# EAGLE library part UCC28780 (library my_ic)
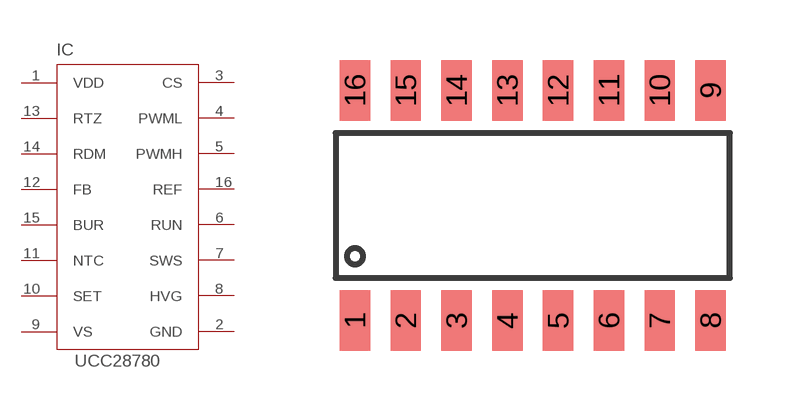
[diagram p29: symbol with the pads of SO16; footprint SO16]

Designator prefix IC

## UCC28780  [SO16]
1  VDD  pwr
2  GND  pwr
3  CS  in
4  PWML  out
5  PWMH  out
6  RUN  out
7  SWS  in
8  HVG  oc
9  VS  in
10  SET  in
11  NTC  pas
12  FB  in
13  RTZ  in
14  RDM  in
15  BUR  in
16  REF  out

## Footprint SO16 (pad centres in mm)
PLASTIC SMALL-OUTLINES PACKAGE D (R-PDSO-G16) Source: http://focus.ti.com/lit/ds/symlink/ina2126.pdf
smd 0.762 x 1.524: 1 -4.445,-2.875; 2 -3.175,-2.875; 3 -1.905,-2.875; 4 -0.635,-2.875; 5 0.635,-2.875; 6 1.905,-2.875; 7 3.175,-2.875; 8 4.445,-2.875; 9 4.445,2.875; 10 3.175,2.875; 11 1.905,2.875; 12 0.635,2.875; 13 -0.635,2.875; 14 -1.905,2.875; 15 -3.175,2.875; 16 -4.445,2.875